# EAGLE library part MAX1811 (library Kuga2_parts)
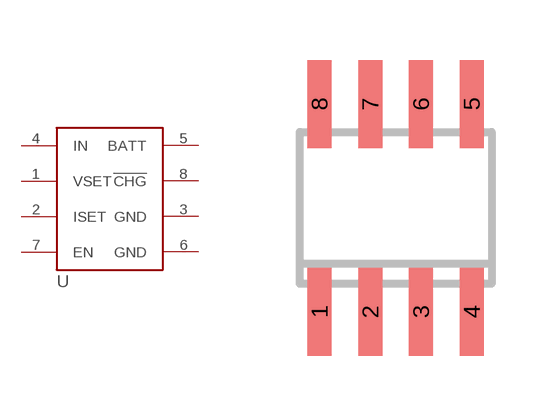
[diagram p4: symbol with the pads of SO-08; footprint SO-08]

Designator prefix -

## MAX1811  [SO-08]
1  VSET
2  ISET
3  GND
4  IN
5  BATT
6  GND
7  EN
8  !CHG

## Footprint SO-08 (pad centres in mm)
Small Outline Narrow Plastic Gull Wing 150-mil body, package type SN
smd 0.6 x 2.2: 1 -1.905,-2.6; 2 -0.635,-2.6; 3 0.635,-2.6; 4 1.905,-2.6; 5 1.905,2.6; 6 0.635,2.6; 7 -0.635,2.6; 8 -1.905,2.6